# EAGLE library part LMC6032* (library mita-akiba)
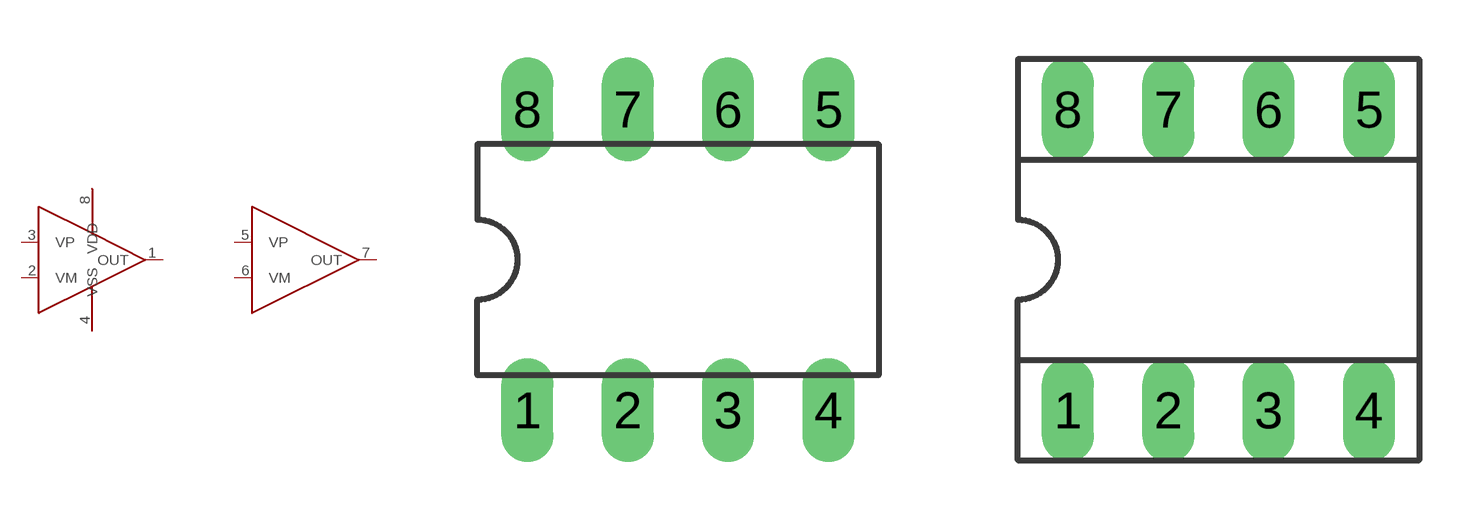
[diagram p29: symbol with the pads of DIL08; footprints DIL08, SOCKED-08]

Designator prefix -; gates G$1=OPAMPVCCVSS G$2=OPAMP

## LMC6032DIL08  [DIL08]
1  G$1:OUT
2  G$1:VM
3  G$1:VP
4  G$1:VSS  pwr
5  G$2:VP
6  G$2:VM
7  G$2:OUT
8  G$1:VDD  pwr

## LMC6032SOCKED  [SOCKED-08]
Pads as for DIL08

## LMC6032SO8  [SO8]
Pads as for DIL08

## Footprint DIL08 (pad centres in mm)
Dual In Line Package
drill 0.813 long: 1 -3.81,-3.81; 2 -1.27,-3.81; 3 1.27,-3.81; 4 3.81,-3.81; 5 3.81,3.81; 6 1.27,3.81; 7 -1.27,3.81; 8 -3.81,3.81

## Footprint SOCKED-08 (pad centres in mm)
Dual In Line Socked
drill 0.813 long: 1 -3.81,-3.81; 2 -1.27,-3.81; 3 1.27,-3.81; 4 3.81,-3.81; 5 3.81,3.81; 6 1.27,3.81; 7 -1.27,3.81; 8 -3.81,3.81

## Footprint SO8 (pad centres in mm)
SMALL OUTLINE INTEGRATED CIRCUIT
smd 0.6 x 2.2: 1 -1.905,-2.6; 2 -0.635,-2.6; 3 0.635,-2.6; 4 1.905,-2.6; 5 1.905,2.6; 6 0.635,2.6; 7 -0.635,2.6; 8 -1.905,2.6